# EAGLE library part 804-103/000-006 (library con-wago_804)
Serie 804, Stand: 01.01.2012. Die jeweils aktuellen Daten zu diesem Artikel finden Sie in unserem Produktkatalog, den Sie unter www.wago.com einsehen können. As of: 01/01/2012. Please find the newest data for this article in our product catalogue, which can be viewed under www.wago.com.
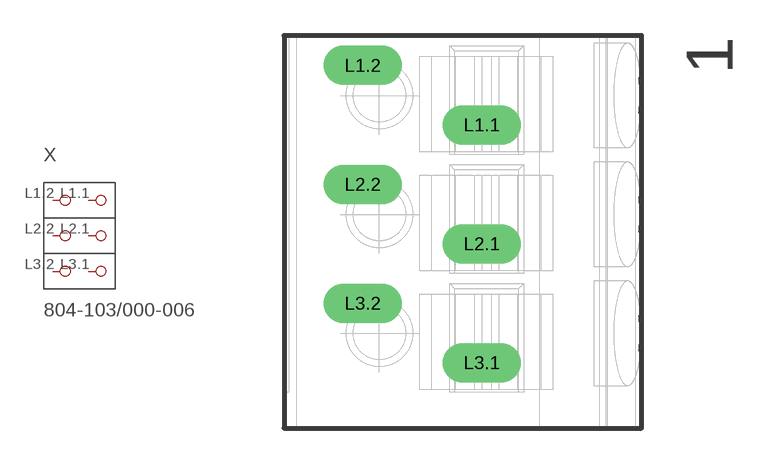
[diagram p48: symbol with the pads of P-804-103; footprint P-804-103]

Designator prefix X

## 804-103/000-006  [P-804-103]
L1.1  P1.1
L1.2  P1.2
L2.1  P2.1
L2.2  P2.2
L3.1  P3.1
L3.2  P3.2

## Footprint P-804-103 (pad centres in mm)
drill 1.1 long: L1.1 0.8,4.5; L1.2 -4.2,7; L2.1 0.8,-0.5; L2.2 -4.2,2; L3.1 0.8,-5.5; L3.2 -4.2,-3